# EAGLE library part SLIDE_DPDT (library mbed-switches)
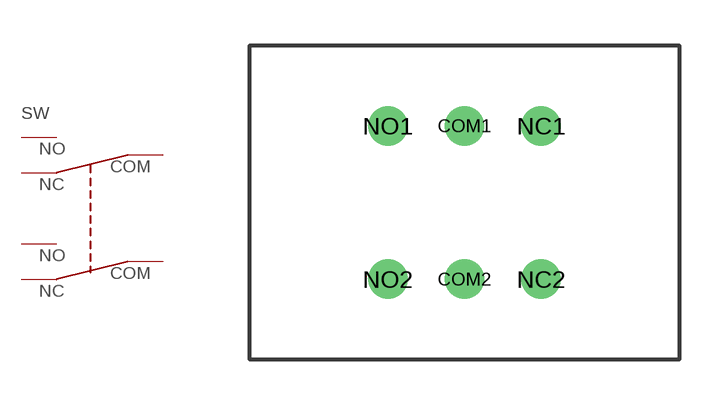
[diagram p1: symbol with the pads of SLIDE_DPDT; footprint SLIDE_DPDT]

Designator prefix SW

## SLIDE_DPDT  [SLIDE_DPDT]
COM1  COM1
COM2  COM2
NC1  NC1
NC2  NC2
NO1  NO1
NO2  NO2

## Footprint SLIDE_DPDT (pad centres in mm)
drill 0.8 round: COM1 0,2.54; COM2 0,-2.54; NC1 2.54,2.54; NC2 2.54,-2.54; NO1 -2.54,2.54; NO2 -2.54,-2.54